# EAGLE library part PER2I16S (library perceptron)
2-Input perceptron Technical details: Activation: Unary step. Precision: 16 bit fixed point (4 integer, 12 decimal).
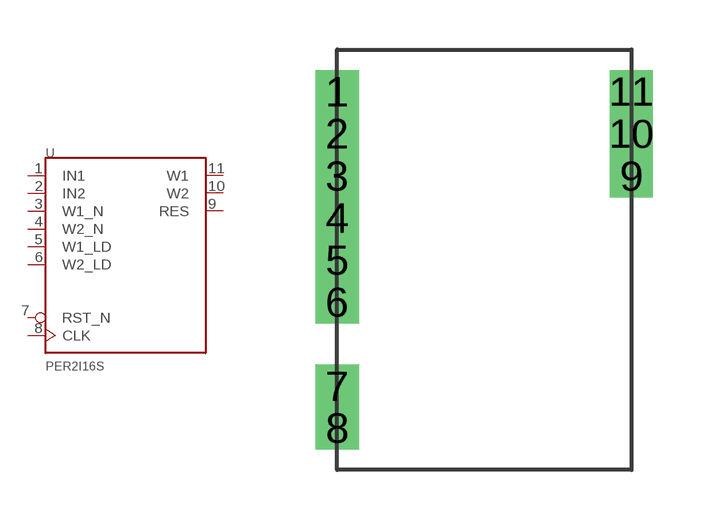
[diagram p0: symbol with the pads of DEFAULT; footprint DEFAULT]

Designator prefix -

## PER2I16S  [DEFAULT]
1  IN1  in
2  IN2  in
3  W1_N  in
4  W2_N  in
5  W1_LD  in
6  W2_LD  in
7  RST_N  in
8  CLK  in
9  RES  out
10  W2  out
11  W1  out

## Footprint DEFAULT (pad centres in mm)
drill 0.8 square: 1 -3.81,3.81; 2 -3.81,2.54; 3 -3.81,1.27; 4 -3.81,0; 5 -3.81,-1.27; 6 -3.81,-2.54; 7 -3.81,-5.08; 8 -3.81,-6.35; 9 5.08,1.27; 10 5.08,2.54; 11 5.08,3.81